# Altium footprint library samtec-tst.PcbLib: 9 footprints
Each footprint in its own frame and in the unit in brackets; x right, y up, seen from the top. Pads: shape width x height; smd on the part's side, far side on the other; paste and mask are expansions set on the pad; w line width, h text height; cw(c..) or ccw(c..) is an arc to the next point about the centre after c.
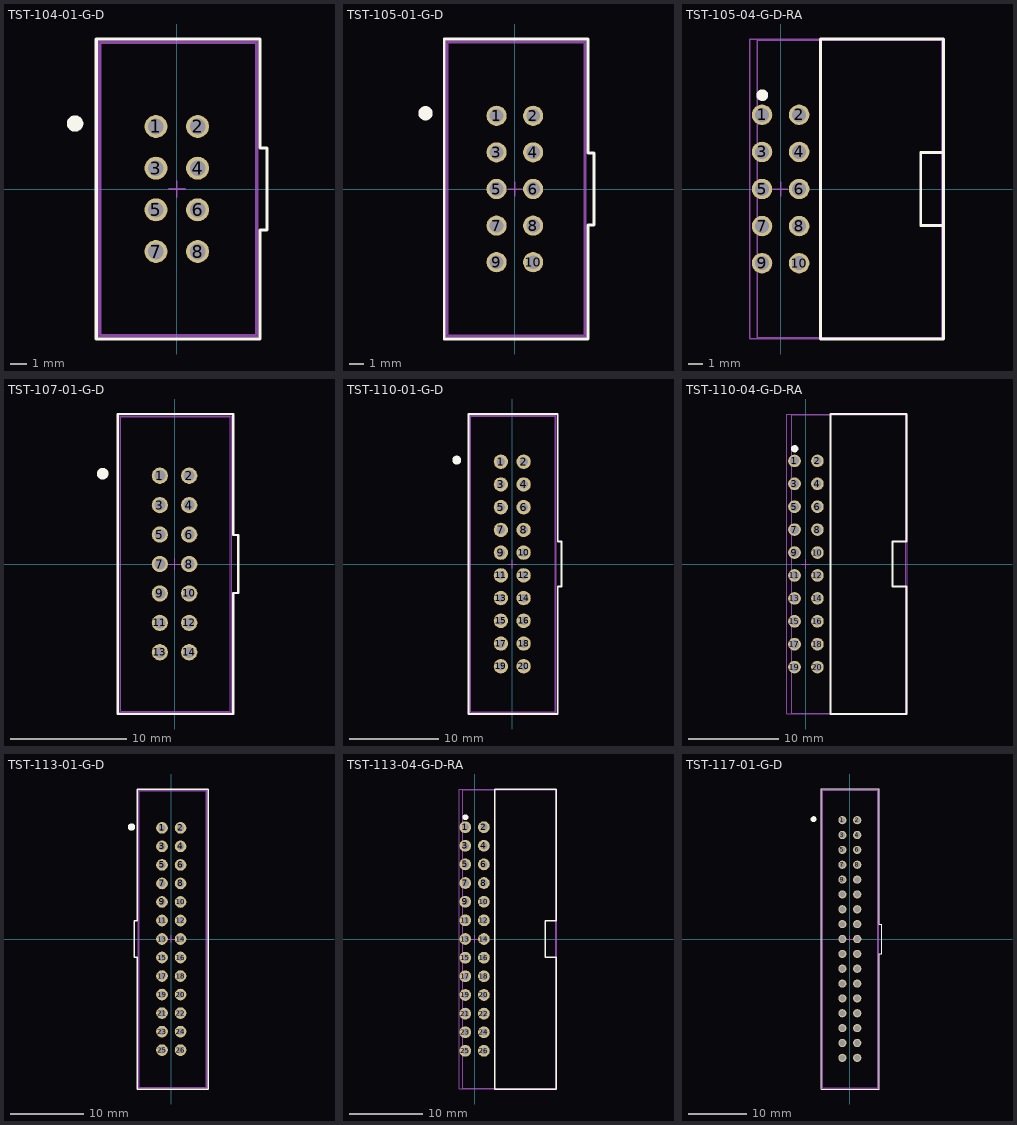
[diagram p0: the footprints below, top view; thin cyan lines are the x and y axes]

## TST-104-01-G-D [mm] "SHROUDED  .025\"  SQ  POST HEADER 2.54mm 2x4"
height 4.32
pads (8):
  round 1.4 hole 0.95: 1(-1.27,3.81) 2(1.27,3.81) 3(-1.27,1.27) 4(1.27,1.27) 5(-1.27,-1.27) 6(1.27,-1.27) 7(-1.27,-3.81) 8(1.27,-3.81)
Top Overlay:
  circle w0.5: c-6.2,3.99 r0.25
  lines w0.2: -4.9,-9.14 -4.9,9.14 5.075,9.14 5.075,2.5 5.5,2.5 5.5,-2.5 5.075,-2.5 5.075,-9.14 -4.9,-9.14
Mechanical 13:
  lines w0.1: -0.5,0 0.5,0 ; 0,-0.5 0,0.5 ; -4.65,-8.89 4.825,-8.89 4.825,8.89 -4.65,8.89 -4.65,-8.89
Mechanical 15:
  lines w0.1: -4.75,-8.99 4.925,-8.99 4.925,8.99 -4.75,8.99 -4.75,-8.99
  text ".Designator" at 0.225,-2.56 h0.5
3D body "TST-107-01-X-D-BASIC.step": height 9.27, standoff -2.92, extent -4.649,-16.51 4.825,8.89

## TST-105-01-G-D [mm] "SHROUDED  .025\"  SQ  POST HEADER 2.54mm 2x5"
height 4.32
pads (10):
  round 1.4 hole 0.95: 1(-1.27,5.08) 2(1.27,5.08) 3(-1.27,2.54) 4(1.27,2.54) 5(-1.27,0) 6(1.27,0) 7(-1.27,-2.54) 8(1.27,-2.54) 9(-1.27,-5.08) 10(1.27,-5.08)
Top Overlay:
  circle w0.5: c-6.2,5.26 r0.25
  lines w0.2: -4.9,-10.41 5.075,-10.41 5.075,-2.5 5.5,-2.5 5.5,2.5 5.075,2.5 5.075,10.41 -4.9,10.41 -4.9,-10.41
Mechanical 13:
  lines w0.1: -0.5,0 0.5,0 ; 0,-0.5 0,0.5 ; -4.65,-10.16 -4.65,10.16 4.825,10.16 4.825,-10.16 -4.65,-10.16
Mechanical 15:
  lines w0.1: -4.75,-10.26 -4.75,10.26 4.925,10.26 4.925,-10.26 -4.75,-10.26
  text ".Designator" at 0.225,-2.56 h0.5
3D body "TST-105-01-X-D.step": height 9.35, standoff -2.84, extent -4.737,-10.16 4.737,10.16

## TST-105-04-G-D-RA [mm] "SHROUDED  .025\"  SQ  POST HEADER 2.54mm 2x5"
height 4.32
pads (10):
  round 1.4 hole 0.95: 1(-1.27,5.08) 2(1.27,5.08) 3(-1.27,2.54) 4(1.27,2.54) 5(-1.27,0) 6(1.27,0) 7(-1.27,-2.54) 8(1.27,-2.54) 9(-1.27,-5.08) 10(1.27,-5.08)
Top Overlay:
  circle w0.4: c-1.25,6.425 r0.2
  lines w0.2: 2.725,-10.275 11.15,-10.275 ; 2.725,-10.25 2.725,10.275 11.15,10.275 11.15,-3.85 11.15,-10.25 ; 11.15,-2.5 9.6,-2.5 9.6,2.5 11.15,2.5
Mechanical 13:
  lines w0.1: -0.5,0 0.5,0 ; 0,-0.5 0,0.5 ; -1.6,-10.2 -1.6,10.175 11.05,10.175 11.05,-10.2 -1.6,-10.2
Mechanical 15:
  lines w0.1: -2.1,-10.25 -2.1,10.25 11.2,10.25 11.2,-10.25 -2.1,-10.25
  text ".Designator" at 0.225,-2.575 h1
3D body "TST-105-04-G-D-RA.stp": height 9.45, standoff -3.13, extent -1.621,-10.135 11.015,10.185

## TST-107-01-G-D [mm] "SHROUDED  .025\"  SQ  POST HEADER 2.54mm 2x7"
height 4.32
pads (14):
  round 1.4 hole 0.95: 1(-1.27,7.62) 2(1.27,7.62) 3(-1.27,5.08) 4(1.27,5.08) 5(-1.27,2.54) 6(1.27,2.54) 7(-1.27,0) 8(1.27,0) 9(-1.27,-2.54) 10(1.27,-2.54) 11(-1.27,-5.08) 12(1.27,-5.08) 13(-1.27,-7.62) 14(1.27,-7.62)
Top Overlay:
  circle w0.5: c-6.2,7.8 r0.25
  lines w0.2: -4.9,-12.95 5.075,-12.95 5.075,-2.5 5.5,-2.5 5.5,2.5 5.075,2.5 5.075,12.95 -4.9,12.95 -4.9,-12.95
Mechanical 13:
  lines w0.1: -0.5,0 0.5,0 ; 0,-0.5 0,0.5 ; -4.65,-12.7 -4.65,12.7 4.825,12.7 4.825,-12.7 -4.65,-12.7
Mechanical 15:
  lines w0.1: -4.75,-12.8 -4.75,12.8 4.925,12.8 4.925,-12.8 -4.75,-12.8
  text ".Designator" at 0.225,-2.56 h0.5
3D body "TST-107-01-X-D-BASIC.step": height 9.27, standoff -2.92, extent -4.649,-12.7 4.825,12.7

## TST-110-01-G-D [mm] "SHROUDED  .025\"  SQ  POST HEADER 2.54mm 2x10"
height 4.32
pads (20):
  round 1.6 hole 0.95: 1(-1.27,11.43) 2(1.27,11.43) 3(-1.27,8.89) 4(1.27,8.89) 5(-1.27,6.35) 6(1.27,6.35) 7(-1.27,3.81) 8(1.27,3.81) 9(-1.27,1.27) 10(1.27,1.27) 11(-1.27,-1.27) 12(1.27,-1.27) 13(-1.27,-3.81) 14(1.27,-3.81) 15(-1.27,-6.35) 16(1.27,-6.35) 17(-1.27,-8.89) 18(1.27,-8.89) 19(-1.27,-11.43) 20(1.27,-11.43)
Top Overlay:
  circle w0.5: c-6.2,11.61 r0.25
  lines w0.2: -4.9,-16.76 5.075,-16.76 5.075,-2.5 5.5,-2.5 5.5,2.5 5.075,2.5 5.075,16.76 -4.9,16.76 -4.9,-16.76
Mechanical 13:
  lines w0.1: -0.5,0 0.5,0 ; 0,-0.5 0,0.5 ; -4.65,-16.51 -4.65,16.51 4.825,16.51 4.825,-16.51 -4.65,-16.51
Mechanical 15:
  lines w0.1: -4.75,-16.61 -4.75,16.61 4.925,16.61 4.925,-16.61 -4.75,-16.61
  text ".Designator" at 0.225,-2.56 h0.5
3D body "Samtec-TST-110-01-G-D.step": height 9.27, standoff -2.92, extent -4.649,-16.51 4.825,16.51

## TST-110-04-G-D-RA [mm] "SHROUDED  .025\"  SQ  POST HEADER 2.54mm 2x5"
height 4.32
pads (20):
  round 1.4 hole 0.95: 1(-1.27,11.43) 2(1.27,11.43) 3(-1.27,8.89) 4(1.27,8.89) 5(-1.27,6.35) 6(1.27,6.35) 7(-1.27,3.81) 8(1.27,3.81) 9(-1.27,1.27) 10(1.27,1.27) 11(-1.27,-1.27) 12(1.27,-1.27) 13(-1.27,-3.81) 14(1.27,-3.81) 15(-1.27,-6.35) 16(1.27,-6.35) 17(-1.27,-8.89) 18(1.27,-8.89) 19(-1.27,-11.43) 20(1.27,-11.43)
Top Overlay:
  circle w0.4: c-1.25,12.775 r0.2
  lines w0.2: 2.725,-16.625 11.15,-16.625 11.15,-2.5 9.6,-2.5 9.6,2.5 11.15,2.5 11.15,16.625 2.725,16.625 2.725,-16.625
Mechanical 13:
  lines w0.1: -0.5,0 0.5,0 ; 0,-0.5 0,0.5 ; -1.6,-16.55 11.05,-16.55 11.05,16.525 -1.6,16.525 -1.6,-16.55
Mechanical 15:
  lines w0.1: -2.1,-16.6 11.2,-16.6 11.2,16.6 -2.1,16.6 -2.1,-16.6
  text ".Designator" at 0.225,-2.55 h0.5
3D body "TST-110-04-G-D-RA.step": height 9.52, standoff -3.26, extent -1.6,-16.51 11.036,16.51

## TST-113-01-G-D [mm] "SHROUDED  .025\"  SQ  POST HEADER 2.54mm 2x13"
height 4.32
pads (26):
  round 1.6 hole 0.95: 1(-1.27,15.24) 2(1.27,15.24) 3(-1.27,12.7) 4(1.27,12.7) 5(-1.27,10.16) 6(1.27,10.16) 7(-1.27,7.62) 8(1.27,7.62) 9(-1.27,5.08) 10(1.27,5.08) 11(-1.27,2.54) 12(1.27,2.54) 13(-1.27,0) 14(1.27,0) 15(-1.27,-2.54) 16(1.27,-2.54) 17(-1.27,-5.08) 18(1.27,-5.08) 19(-1.27,-7.62) 20(1.27,-7.62) 21(-1.27,-10.16) 22(1.27,-10.16) 23(-1.27,-12.7) 24(1.27,-12.7) 25(-1.27,-15.24) 26(1.27,-15.24)
Top Overlay:
  circle w0.5: c-5.45,15.35 r0.25
  lines w0.2: -5.1,-2.5 -4.675,-2.5 -4.675,-20.57 5.075,-20.57 5.075,20.57 -4.675,20.57 -4.675,2.5 -5.1,2.5 -5.1,-2.5
Mechanical 13:
  lines w0.1: -0.5,0 0.5,0 ; 0,-0.5 0,0.5 ; -4.425,-20.32 -4.425,20.32 4.825,20.32 4.825,-20.32 -4.425,-20.32
Mechanical 15:
  lines w0.1: -4.525,-20.42 -4.525,20.42 4.925,20.42 4.925,-20.42 -4.525,-20.42
  text ".Designator" at 0.225,-2.56 h0.5
3D body "TST-113-01-G-D.stp": height 8.89, standoff -3.3, extent -4.435,-20.315 4.835,20.325

## TST-113-04-G-D-RA [mm] "SHROUDED  .025\"  SQ  POST HEADER 2.54mm 2x13"
height 4.32
pads (26):
  round 1.6 hole 0.95: 1(-1.27,15.24) 2(1.27,15.24) 3(-1.27,12.7) 4(1.27,12.7) 5(-1.27,10.16) 6(1.27,10.16) 7(-1.27,7.62) 8(1.27,7.62) 9(-1.27,5.08) 10(1.27,5.08) 11(-1.27,2.54) 12(1.27,2.54) 13(-1.27,0) 14(1.27,0) 15(-1.27,-2.54) 16(1.27,-2.54) 17(-1.27,-5.08) 18(1.27,-5.08) 19(-1.27,-7.62) 20(1.27,-7.62) 21(-1.27,-10.16) 22(1.27,-10.16) 23(-1.27,-12.7) 24(1.27,-12.7) 25(-1.27,-15.24) 26(1.27,-15.24)
Top Overlay:
  circle w0.4: c-1.25,16.585 r0.2
  lines w0.2: 2.725,-20.435 2.725,20.435 11.15,20.435 11.15,2.5 9.6,2.5 9.6,-2.5 11.15,-2.5 11.15,-20.435 2.725,-20.435
Mechanical 13:
  lines w0.1: -0.5,0 0.5,0 ; 0,-0.5 0,0.5 ; -1.6,-20.36 -1.6,20.335 11.05,20.335 11.05,-20.36 -1.6,-20.36
Mechanical 15:
  lines w0.1: -2.1,-20.41 -2.1,20.41 11.2,20.41 11.2,-20.41 -2.1,-20.41
  text ".Designator" at 0.225,-2.55 h0.5
3D body "TST-113-04-G-D-RA.stp": height 8.05, standoff -4.53, extent -1.587,-20.32 11.05,20.32

## TST-117-01-G-D [mm] "SHROUDED  .025\"  SQ  POST HEADER 2.54mm 2x17"
height 4.32
pads (34):
  round 1.4 hole 0.95: 1(-1.27,20.32) 2(1.27,20.32) 3(-1.27,17.78) 4(1.27,17.78) 5(-1.27,15.24) 6(1.27,15.24) 7(-1.27,12.7) 8(1.27,12.7) 9(-1.27,10.16) 10(1.27,10.16) 11(-1.27,7.62) 12(1.27,7.62) 13(-1.27,5.08) 14(1.27,5.08) 15(-1.27,2.54) 16(1.27,2.54) 17(-1.27,0) 18(1.27,0) 19(-1.27,-2.54) 20(1.27,-2.54) 21(-1.27,-5.08) 22(1.27,-5.08) 23(-1.27,-7.62) 24(1.27,-7.62) 25(-1.27,-10.16) 26(1.27,-10.16) 27(-1.27,-12.7) 28(1.27,-12.7) 29(-1.27,-15.24) 30(1.27,-15.24) 31(-1.27,-17.78) 32(1.27,-17.78) 33(-1.27,-20.32) 34(1.27,-20.32)
Top Overlay:
  circle w0.5: c-6.2,20.5 r0.25
  lines w0.2: -4.9,-25.65 5.075,-25.65 5.075,-2.5 5.5,-2.5 5.5,2.5 5.075,2.5 5.075,25.65 -4.9,25.65 -4.9,-25.65
Mechanical 13:
  lines w0.1: -0.5,-0.01 0.5,-0.01 ; 0,-0.51 0,0.49 ; -4.65,-25.4 4.825,-25.4 4.825,25.4 -4.65,25.4 -4.65,-25.4
Mechanical 15:
  lines w0.1: -4.75,-25.5 4.925,-25.5 4.925,25.5 -4.75,25.5 -4.75,-25.5
  text ".Designator" at 0.225,-2.56 h0.5
3D body "Samtec-TST-117-01-G-D.step": height 9.27, standoff -2.92, extent -4.649,-25.4 4.825,25.4